# EAGLE library part MAX232D (library Common-Parts-Library-Eagle)
SMD Receiver Module; MAX232 (SOIC - RS232 to TTL level translator)
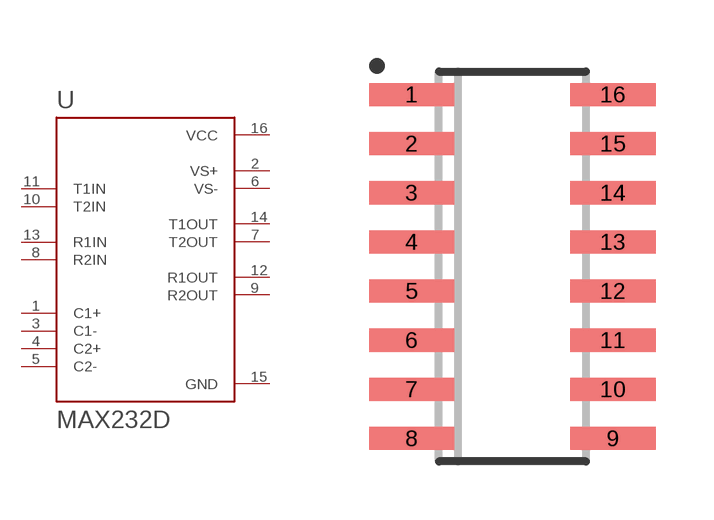
[diagram p50: symbol with the pads of SOIC127P600X175-16N; footprint SOIC127P600X175-16N]

Designator prefix U

## MAX232D (MANUFACTURER: Texas Instruments)  [SOIC127P600X175-16N]
1  C1+  pas
2  VS+  out
3  C1-  pas
4  C2+  pas
5  C2-  pas
6  VS-  out
7  T2OUT  out
8  R2IN  in
9  R2OUT  out
10  T2IN  in
11  T1IN  in
12  R1OUT  out
13  R1IN  in
14  T1OUT  out
15  GND  pwr
16  VCC  pwr

## Footprint SOIC127P600X175-16N (pad centres in mm)
smd 2.2 x 0.6: 1 -2.6,4.445; 2 -2.6,3.175; 3 -2.6,1.905; 4 -2.6,0.635; 5 -2.6,-0.635; 6 -2.6,-1.905; 7 -2.6,-3.175; 8 -2.6,-4.445; 9 2.6,-4.445; 10 2.6,-3.175; 11 2.6,-1.905; 12 2.6,-0.635; 13 2.6,0.635; 14 2.6,1.905; 15 2.6,3.175; 16 2.6,4.445